# Altium schematic symbol library RMCF0805JT10K0.SchLib: 1 symbol
Pins are listed as number, name and electrical type; pins without a type are passive.

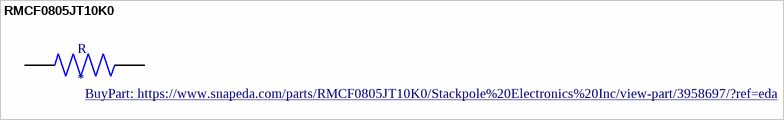
[diagram p0: symbol RMCF0805JT10K0]

## RMCF0805JT10K0
designator R
10 kOhms Â±5% 0.125W, 1/8W Chip Resistor 0805 (2012 Metric) Automotive AEC-Q200 Thick Film; MF: Stackpole Electronics Inc; MP: RMCF0805JT10K0; Availability: Warning; Value: *; Price: None; DigiKey-Purchase-URL: https://snapeda.com/shop?store=DigiKey&id=3958697; SnapEDA_Link: https://www.snapeda.com/parts/RMCF0805JT10K0/Stackpole%20Electronics%20Inc/view-part/3958697/?ref=snap; Package: 2012 Stackpole; BuyPart: https://www.snapeda.com/parts/RMCF0805JT10K0/Stackpole%20Electronics%20Inc/view-part/3958697/?ref=eda
footprint RESC2012X65N
pins: 1, 2